# Altium schematic symbol library POWER IC.SchLib: 5 symbols
Pins are listed as number, name and electrical type; pins without a type are passive.

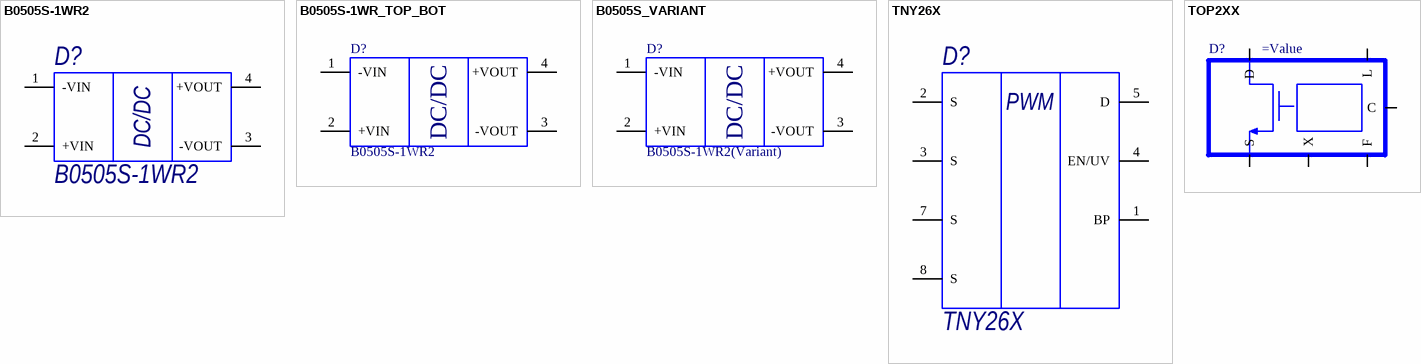
[diagram p0: symbols B0505S-1WR2 to TOP2XX]

## B0505S-1WR2
designator D?
Микросхема изолированный DC/DC конвертор; ComponentDescription: =ComponentTypе+', '+Comment+', '+Package; ComponentTypе: Микросхема изолированный DC/DC конвертор
footprint SIP4 (SIP4 1W case)
pins: 1 -VIN, 2 +VIN, 3 -VOUT, 4 +VOUT
text: DC/DC

## B0505S-1WR_TOP_BOT
designator D?, comment B0505S-1WR2
Микросхема изолированный DC/DC конвертор; ComponentDescription: =ComponentTypе+', '+Comment+', '+Package; ComponentTypе: Микросхема изолированный DC/DC конвертор
footprint SIP4_UNI (SIP4 1W case)
pins: 1 -VIN, 2 +VIN, 3 -VOUT, 4 +VOUT
text: DC/DC

## B0505S_VARIANT
designator D?, comment B0505S-1WR2(Variant)
Микросхема изолированный DC/DC конвертор; ComponentDescription: =ComponentTypе+', '+Comment+', '+Package; ComponentTypе: Микросхема изолированный DC/DC конвертор
footprint SIP4_VARIANT (SIP4 1W case)
pins: 1 -VIN, 2 +VIN, 3 -VOUT, 4 +VOUT
text: DC/DC

## TNY26X
designator D?
Микросхема ШИМ-контроллер. TNY263-268. TinySwitch-II Family /; ComponentDescription: =ComponentTypе+', '+Comment+', '+Package; ComponentTypе: Микросхема ШИМ-контроллер
footprint SMD-8B (G Package (SMD-8B))
pins: 1 BP, 2 S, 3 S, 4 EN/UV, 5 D, 7 S, 8 S
text: PWM

## TOP2XX
designator D?
Микросхема TOPSwitch; ComponentDescription: =ComponentTypе+', '+Comment+', '+Package; ComponentTypе: Микросхема TOPSwitch
footprint TO-220-7C
pins: 1 C (in), 2 L, 3 X, 4 S, 5 F, 7 D